# Altium footprint library 74HC595.PcbLib: 1 footprints
Each footprint in its own frame and in the unit in brackets; x right, y up, seen from the top. Pads: shape width x height; smd on the part's side, far side on the other; paste and mask are expansions set on the pad; w line width, h text height; cw(c..) or ccw(c..) is an arc to the next point about the centre after c.
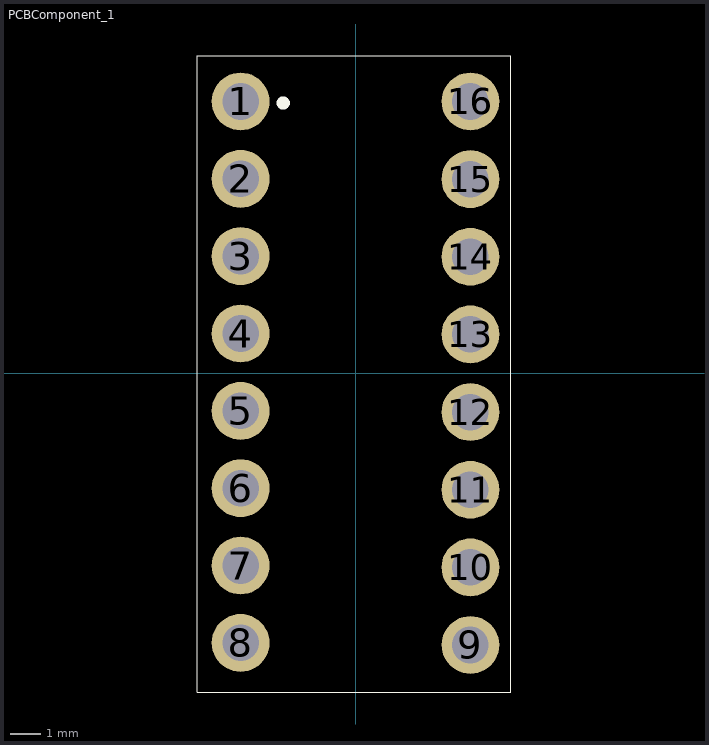
[diagram p0: the footprint, top view; thin cyan lines are the x and y axes]

## PCBComponent_1 [mm]
pads (18):
  round 1.9 hole 1.2 mask+0.076: 1(-3.775,8.925) 1(-3.775,8.925) 2(-3.775,6.385) 3(-3.775,3.845) 4(-3.775,1.305) 5(-3.775,-1.235) 6(-3.775,-3.775) 7(-3.775,-6.315) 8(-3.775,-8.855) 9(3.775,-8.925) 10(3.775,-6.375) 11(3.775,-3.825) 12(3.775,-1.275) 13(3.775,1.275) 14(3.775,3.825) 15(3.775,6.375) 16(3.775,8.925) 16(3.775,8.925)
Top Overlay:
  circle w0.254: c-2.375,8.875 r0.09
  lines w0.005: -5.2,-10.475 -5.2,10.425 5.1,10.425 5.1,-10.475 -5.2,-10.475
3D body "74hc595.stp": height 3, standoff -2.6, extent -3.65,-9.475 3.85,9.525